# Altium schematic symbol library MP6540GU-P.SchLib: 1 symbol
Pins are listed as number, name and electrical type; pins without a type are passive.

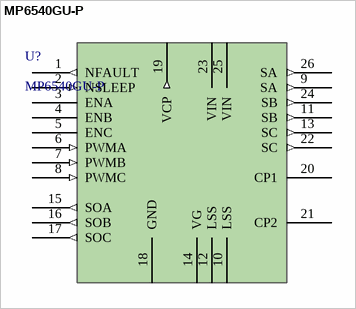
[diagram p0: symbol MP6540GU-P]

## MP6540GU-P
designator U?
35V 3A Three-Phase Power Stage; Manufacturer_Name: Monolithic Power Systems; Copyright: Copyright (C) 2025 Ultra Librarian. All rights reserved.; Manufacturer_Part_Number: MP6540GU-P; RefDes: RefDes; Type: Type
footprint QFN-5x5_MP6540_MNP
pins: 1 NFAULT (out), 2 NSLEEP (in), 3 ENA, 4 ENB, 5 ENC, 6 PWMA (in), 7 PWMB (in), 8 PWMC (in), 9 SA (out), 10 LSS, 11 SB (out), 12 LSS, 13 SC (out), 14 VG, 15 SOA (out), 16 SOB (out), 17 SOC (out), 18 GND (power), 19 VCP (out), 20 CP1, 21 CP2, 22 SC (out), 23 VIN (power), 24 SB (out), 25 VIN (power), 26 SA (out)